# EAGLE library part ADM7171ACPZ (library Analog Devices)
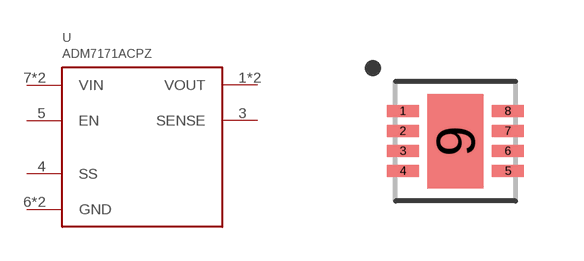
[diagram p35: symbol with the pads of LFCSP8_3X3; footprint LFCSP8_3X3]

Designator prefix U

## ADM7171ACPZ, ADM7171ACPZ-1.3, ADM7171ACPZ-1.8, ADM7171ACPZ-2.5, ADM7171ACPZ-3.0, ADM7171ACPZ-3.3, ADM7171ACPZ-4.2, ADM7171ACPZ-5.0  [LFCSP8_3X3]
1  VOUT
2  VOUT
3  SENSE
4  SS
5  EN
6  GND
7  VIN
8  VIN
9  GND

## Footprint LFCSP8_3X3 (pad centres in mm)
smd 0.8 x 0.3: 1 -1.315,0.75; 2 -1.315,0.25; 3 -1.315,-0.25; 4 -1.315,-0.75; 5 1.315,-0.75; 6 1.315,-0.25; 7 1.315,0.25; 8 1.315,0.75
smd 1.4 x 2.36: 9 0,0